# EAGLE library part COLIBRI-8PIN (library toradex)
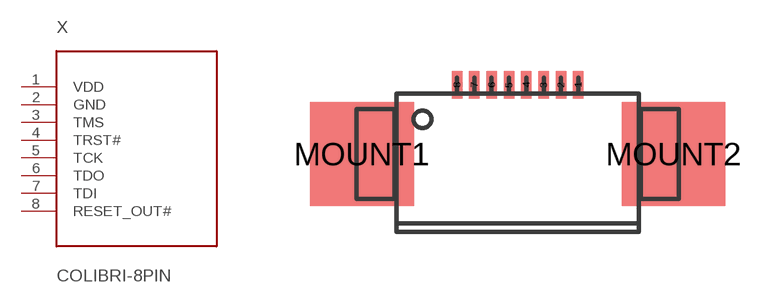
[diagram p1: symbol with the pads of 52746-0890; footprint 52746-0890]

Designator prefix X

## COLIBRI-8PIN  [52746-0890]
1  VDD
2  GND
3  TMS
4  TRST#
5  TCK
6  TDO
7  TDI
8  RESET_OUT#

## Footprint 52746-0890 (pad centres in mm)
smd 0.3 x 0.8: 1 1.5,1; 2 1,1; 3 0.5,1; 4 0,1; 5 -0.5,1; 6 -1,1; 7 -1.5,1; 8 -2,1
smd 3 x 3: MOUNT1 -4.75,-1; MOUNT2 4.25,-1